# Altium schematic symbol library Mosfet.SchLib: 9 symbols
Pins are listed as number, name and electrical type; pins without a type are passive.

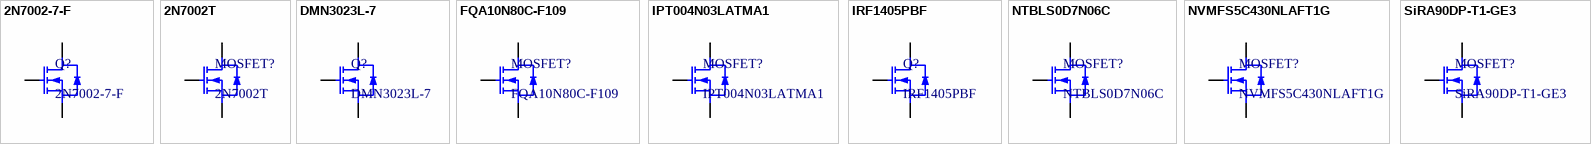
[diagram p0: symbols 2N7002-7-F to SiRA90DP-T1-GE3]

## 2N7002-7-F
designator Q?
MOSFET N-CH 60V SOT-23-3; Manufacturer: DIODES; FET Type: N-Channel; Rds On (Max) @ Id, Vgs: 5 ohm @ 210mA, 20V; Input Capacitance (Ciss) (Max) @Vds: 22pF; Vgs(th) (Max) Id: 2.5V; Current - Continuous Drain (Id) @25°C: 210mA; Gate Charge (Qg) (Max) @ Vgs: 223pC @ 10V; Power Dissipation (Max): 540 mW; Drive Voltage (Max Rds On, Min Rds On): 5 Ohms; Vgs (Max): 20V; Rise / Fall Time (Typ): 3.0 / 5.6 (ns); Part Number: 2N7002-7-F; Price: 1=0,20, 10=0,185, 100=0,101, 500=0,062, 1000=0,043 (USD); Package / Case: SOT-23-3; Operating Temperature: 150 °C; Drain to Source Voltage (Vds): 60V; Supplier 1: Mouser; Library Ref: Mosfet; Supplier Part Number 1: 621-2N7002-F; ComponentLink1Description: Datasheet; ComponentLink1URL: https://www.mouser.com/datasheet/2/115/2N7002-1591994.pdf; ComponentLink2Description: Mouser; ComponentLink2URL: https://www.mouser.com/ProductDetail/Diodes-Incorporated/2N7002-7-F?qs=%2Fha2pyFadugo8BbqEmDB8lzlZH6QdgQJut9pp8zbUks%3D
footprint SOT-23-3 (SOT223, 3-Leads, Body 2,90x2,40mm (avg), Pitch 1,83mm, IPC Medium Density)
pins: D, G, S

## 2N7002T
designator MOSFET?
MOSFET N-CH 60V 115mA SOT-523F 3L; Manufacturer: Fairchild; FET Type: N- channel; Rds On (Max) @ Id, Vgs: 7.5Ω@0.05A, 5V; Input Capacitance (Ciss) (Max) @Vds: 50pF@25V; Vgs(th) (Max) Id: 2V@250uA; Power Dissipation (Max): 200mW; Drive Voltage (Max Rds On, Min Rds On): 7.5,2; Vgs (Max): 2V; Rise / Fall Time (Typ): 20ns; Part Number: 2N7002T; Price: 1 = $0.42  10 = $0.316  100 = $0.197  500 = $0.135  1000 = $0.104; Package / Case: SOT-523F 3L; Operating Temperature: -55 to +150°C; Drain to Source Voltage (Vds): 60V; Supplier 1: Mouser; Library Ref: Mosfet; Supplier Part Number 1: 512-2N7002T; Current - Continuous Drain (Id) @25°C: 115mA; Gate Charge (Qg) (Max) @ Vgs: -; ComponentLink1Description: Datasheet; ComponentLink1URL: https://www.mouser.com/datasheet/2/308/2N7002T_D-2309323.pdf; ComponentLink2Description: Mouser; ComponentLink2URL: https://br.mouser.com/ProductDetail/ON-Semiconductor-Fairchild/2N7002T?qs=sXL1QONaU67EIDV%2FB54SVA%3D%3D
footprint SOT-523F 3L (SOT223, 3-Leads, Body 1,60x1,60mm (avg), Pitch 1,00mm, IPC Medium Density)
pins: D, G, S

## DMN3023L-7
designator Q?
MOSFET N-CH 30V SOT-23-3; Manufacturer: DIODES; FET Type: N-Channel; Rds On (Max) @ Id, Vgs: 68mOhms @ 2.5A, 2.5V; Input Capacitance (Ciss) (Max) @Vds: 873pF; Vgs(th) (Max) Id: 1.8V; Current - Continuous Drain (Id) @25°C: 6.2 A; Gate Charge (Qg) (Max) @ Vgs: 18.4nC; Power Dissipation (Max): 0.9W; Drive Voltage (Max Rds On, Min Rds On): 25mOhm; Rise / Fall Time (Typ): 18 /  70 (ns); Part Number: DMN3023L-7; Price: 1=0,39, 10=0,285, 100=0,179, 500=0,166, 1000=0,113 (USD); Package / Case: SOT-23-3; Operating Temperature: 150 °C; Drain to Source Voltage (Vds): 30V; Supplier 1: Mouser; Library Ref: Mouser; Supplier Part Number 1: 621-DMN3023L-7; Vgs (Max): 1.8V; ComponentLink1Description: Datasheet; ComponentLink1URL: https://www.mouser.com/datasheet/2/115/DMN3023L-959533.pdf; ComponentLink2Description: Mouser; ComponentLink2URL: https://www.mouser.com/ProductDetail/Diodes-Incorporated/DMN3023L-7?qs=MNIFWdyJgbpS4HSLyrAo5g%3D%3D
footprint SOT-23-3 (SOT223, 3-Leads, Body 2,90x2,40mm (avg), Pitch 1,83mm, IPC Medium Density)
pins: D, G, S

## FQA10N80C-F109
designator MOSFET?
MOSFET N-CH 800V 10A TO-3PN; Manufacturer: ON Semiconductor; FET Type: N- channel; Rds On (Max) @ Id, Vgs: 1.1 Ω@5A,10V; Input Capacitance (Ciss) (Max) @Vds: 2800pF@25 V; Vgs(th) (Max) Id: 5.0V @250uA; Gate Charge (Qg) (Max) @ Vgs: 58nC@10V; Power Dissipation (Max): 240 W; Drive Voltage (Max Rds On, Min Rds On): 1.1; Vgs (Max): 5V; Rise / Fall Time (Typ): 270/170; Part Number: FQA10N80C-F109; Price: 1 =$3.47  10 = $3.13  100 = $2.56  500 = $2.17  1000 = $1.83; Package / Case: TO-3PN; Operating Temperature: -55 to +150 °C; Drain to Source Voltage (Vds): 800V; Supplier 1: Mouser; Library Ref: Mosfet; Supplier Part Number 1: 512-FQA10N80C_F109; Current - Continuous Drain (Id) @25°C: 10A; ComponentLink1Description: Datasheet; ComponentLink1URL: https://www.mouser.com/datasheet/2/308/1/FQA10N80C_F109_D-2313581.pdf; ComponentLink2Description: Mouser; ComponentLink2URL: https://br.mouser.com/ProductDetail/ON-Semiconductor-Fairchild/FQA10N80C-F109?qs=0lQeLiL1qyb%2FzpB%252Bw6JOSg%3D%3D
footprint TO-3PN
pins: D, G, S

## IPT004N03LATMA1
designator MOSFET?
MOSFET N-CH 30V PG-HSOF-8-1; Manufacturer: Infineon; FET Type: N-Channel; Power - Max: 300 W; Rds On (Max) @ Id, Vgs: 0.5 mΩ @ 150 A, 4.5 V; Input Capacitance (Ciss) (Max) @Vds: 24000 pF @ 15 V; Vgs(th) (Max) @ Id: 2.2 V @ 250 uA; Current - Continuous Drain (Id) @25°C: 300 A @ 25 °C; Gate Charge (Qg) (Max) @ Vgs: 336 nC @ 10 V; Drive Voltage (Max Rds On, Min Rds On): 10 V, 4.5 V; Vgs(max): 20 V; Rise / Fall Time (Typ): 17 ns / 37 ns; Part Number: IPT004N03LATMA1; Price: 1=5.33, 10=4,79,100=3,93 (USD); Package / Case: PG-HSOF-8-1; Operating Temperature: -55 to 150 °C; ComponentLink1Description: Datasheet; ComponentLink1URL: https://www.mouser.com/datasheet/2/196/Infineon-IPT004N03L-DS-v02_00-EN-1227267.pdf; ComponentLink2Description: Mouser; ComponentLink2URL: https://br.mouser.com/ProductDetail/Infineon-Technologies/IPT004N03LATMA1?qs=WkdRfq4wf1PQ3zB1legiWQ%3D%3D; Drain to Source Voltage (Vdss): 30 V; Supplier 1: Mouser; Library Ref: Mouser; Supplier Part Number 1: 726-IPT004N03LATMA1; Library Control - Checked Footprint: *; Library Control - Last Project that Used: *; Library Control - Last Update: *; Library Control - Person that Checked Footprint: *; Library Control - Person that Checked Schematic: *; Library Control - Person that did the Last Update Footprint: *; Library Control - Person that did the Last Update Schematic: *
footprint PG-HSOF-8-1 (HSOF, 8-Leads, Body 11.675x9.9mm, Pitch 1.2mm)
pins: D, G, S

## IRF1405PBF
designator Q?
MOSFET N-CH 55V 133A TO-220-3; Manufacturer: IOR Rectifier; FET Type: N-Channel; Rds On (Max) @ Id, Vgs: 5.3mOhm @ 196A, 55V; Input Capacitance (Ciss) (Max) @Vds: 5480pF; Vgs(th) (Max) Id: 4V; Current - Continuous Drain (Id) @25°C: 169A; Gate Charge (Qg) (Max) @ Vgs: 260nC; Power Dissipation (Max): 330W; Drive Voltage (Max Rds On, Min Rds On): 5.3mOhm; Rise / Fall Time (Typ): 190 / 110 (ns); Part Number: IRF1405PBF; Price: 1=2,56, 10=2,31, 100=1,86, 500=1,53, 1000=1,23 (USD); Package / Case: TO-220-3; Operating Temperature: 175 °C; Drain to Source Voltage (Vds): 55V; Supplier 1: Mouser; Library Ref: Mosfet; Supplier Part Number 1: 942-IRF1405PBF; Vgs (Max): 4V; ComponentLink1Description: Datasheet; ComponentLink1URL: https://www.mouser.com/datasheet/2/196/Infineon_IRF1405_DataSheet_v01_01_EN-1732404.pdf; ComponentLink2Description: Mouser; ComponentLink2URL: https://www.mouser.com/ProductDetail/Infineon-IR/IRF1405PBF?qs=%2Fha2pyFaduicxgwQeFSVVXX9VdmZ7DxpfZpPhcIFXOJCv4ujcHBLnQ%3D%3D
footprint TO-220-3
pins: D, G, S

## NTBLS0D7N06C
designator MOSFET?
MOSFET N-CH 60V H-PSOF8L; Manufacturer: ON Semiconductor; FET Type: N-Channel; Power - Max: 314 W; Rds On (Max) @ Id, Vgs: 1.20 mOhms @ 66 A, 6 V; Input Capacitance (Ciss) (Max) @Vds: 13730 pF @ 30 V; Vgs(th) (Max) @ Id: 4.0 V @ 661 uA; Current - Continuous Drain (Id) @25°C: 470 A @ 25 °C; Gate Charge (Qg) (Max) @ Vgs: 170 nC @ 10 V; Drive Voltage (Max Rds On, Min Rds On): 10 V, 6 V; Vgs(max): 20 V; Rise / Fall Time (Typ): 57 ns / 105 ns; Part Number: NTBLS0D7N06C; Price: 1=6.34, 10=5,71, 100=4,68 (USD); Package / Case: H-PSOF8L; Operating Temperature: -55 °C to 175 °C; ComponentLink1Description: Datasheet; ComponentLink1URL: https://br.mouser.com/datasheet/2/308/1/NTBLS0D7N06C_D-2318754.pdf; ComponentLink2Description: Mouser; ComponentLink2URL: https://br.mouser.com/ProductDetail/ON-Semiconductor/NTBLS0D7N06C?qs=%2Fha2pyFadugGEB1UxNzDp431XuTF94UfK0t6rm91wX8zeL7jEAQagw%3D%3D; Drain to Source Voltage (Vdss): 60 V; Supplier 1: Mouser; Library Ref: Mosfet; Supplier Part Number 1: 863-NTBLS0D7N06C; Library Control - Checked Footprint: *; Library Control - Last Project that Used: *; Library Control - Last Update: *; Library Control - Person that Checked Footprint: *; Library Control - Person that Checked Schematic: *; Library Control - Person that did the Last Update Footprint: *; Library Control - Person that did the Last Update Schematic: *
footprint H-PSOF8L
pins: D, G, S

## NVMFS5C430NLAFT1G
designator MOSFET?
MOSFET N-CH 40V SO-8FL; Manufacturer: ON Semiconductor; FET Type: N-Channel; Power - Max: 110 W; Rds On (Max) @ Id, Vgs: 2.2 mOhms @ 50 A, 4.5 V; Input Capacitance (Ciss) (Max) @Vds: 4300 pF @ 20 V; Vgs(th) (Max) @ Id: 2.0 V @ 250 uA; Current - Continuous Drain (Id) @25°C: 200 A @ 25 °C; Gate Charge (Qg) (Max) @ Vgs: 70 nC @ 10 V; Drive Voltage (Max Rds On, Min Rds On): 10 V, 4.5 V; Vgs(max): 20; Rise / Fall Time (Typ): 140 ns / 9 ns; Part Number: NVMFS5C430NLAFT1G; Price: 1=1.60, 10=1,44, 100=1,13 (USD); Package / Case: SO-8FL; Operating Temperature: 175 °C; ComponentLink1Description: Datasheet; ComponentLink1URL: https://www.mouser.com/datasheet/2/308/1/NVMFS5C430NL_D-2319498.pdf; ComponentLink2Description: Mouser; ComponentLink2URL: https://br.mouser.com/ProductDetail/ON-Semiconductor/NVMFS5C430NLAFT1G?qs=%2Fha2pyFadugrWtVZPdJqyoWbWrH%252BHMcKF%2Fx%2FgJ5CtYec2a2beZTtEvP1Ys0lp4pa; Drain to Source Voltage (Vdss): 40 V; Supplier 1: Mouser; Library Ref: Mosfet; Supplier Part Number 1: 863-NVMFS5C430NLFT1G; Library Control - Checked Footprint: *; Library Control - Last Project that Used: *; Library Control - Last Update: *; Library Control - Person that Checked Footprint: *; Library Control - Person that Checked Schematic: *; Library Control - Person that did the Last Update Footprint: *; Library Control - Person that did the Last Update Schematic: *
footprint SO-8FL
pins: D, G, S

## SiRA90DP-T1-GE3
designator MOSFET?
MOSFET N-CH 30V 100A SO-8; Manufacturer: Vishay; FET Type: N-channel; Rds On (Max) @ Id, Vgs: 0.00080Ω@100A,10V  /  0.00115Ω@100A,4.5V; Input Capacitance (Ciss) (Max) @Vds: 10 180pF@15 V; Vgs(th) (Max) Id: 2V@250uA; Current - Continuous Drain (Id) @25°C: TC= 25°C, ID = 100A /  TA = 25°C, ID = 65.8 A; Gate Charge (Qg) (Max) @ Vgs: 153nC@10V; Power Dissipation (Max): 240W; Drive Voltage (Max Rds On, Min Rds On): 0.0008/0.00115; Vgs (Max): 2V; Rise / Fall Time (Typ): 32ns/20ns; Part Number: SiRA90DP-T1-GE3; Price: 1 = $1.36  10 = $1.22  100 = $0.952  500 = $0.786  1000 = $0.621; Package / Case: powerpack SO-8; Operating Temperature: -55 to 150°C; Drain to Source Voltage (Vds): 30V; Supplier 1: Mouser; Library Ref: Mosfet; Supplier Part Number 1: 78-SIRA90DP-T1-GE3; ComponentLink1Description: Datasheet; ComponentLink1URL: https://br.mouser.com/datasheet/2/427/sira90dp-1764888.pdf; ComponentLink2Description: Mouser; ComponentLink2URL: https://br.mouser.com/ProductDetail/Vishay-Semiconductors/SIRA90DP-T1-GE3?qs=NSAOzM2zc%2FWM%2FQkDM84xOw%3D%3D
footprint powerpack SO-8
pins: D, G, S